# Altium footprint library Nebulizer_medical.PcbLib: 28 footprints (part 2 of 2)
Each footprint in its own frame and in the unit in brackets; x right, y up, seen from the top. Pads: shape width x height; smd on the part's side, far side on the other; paste and mask are expansions set on the pad; w line width, h text height; cw(c..) or ccw(c..) is an arc to the next point about the centre after c.
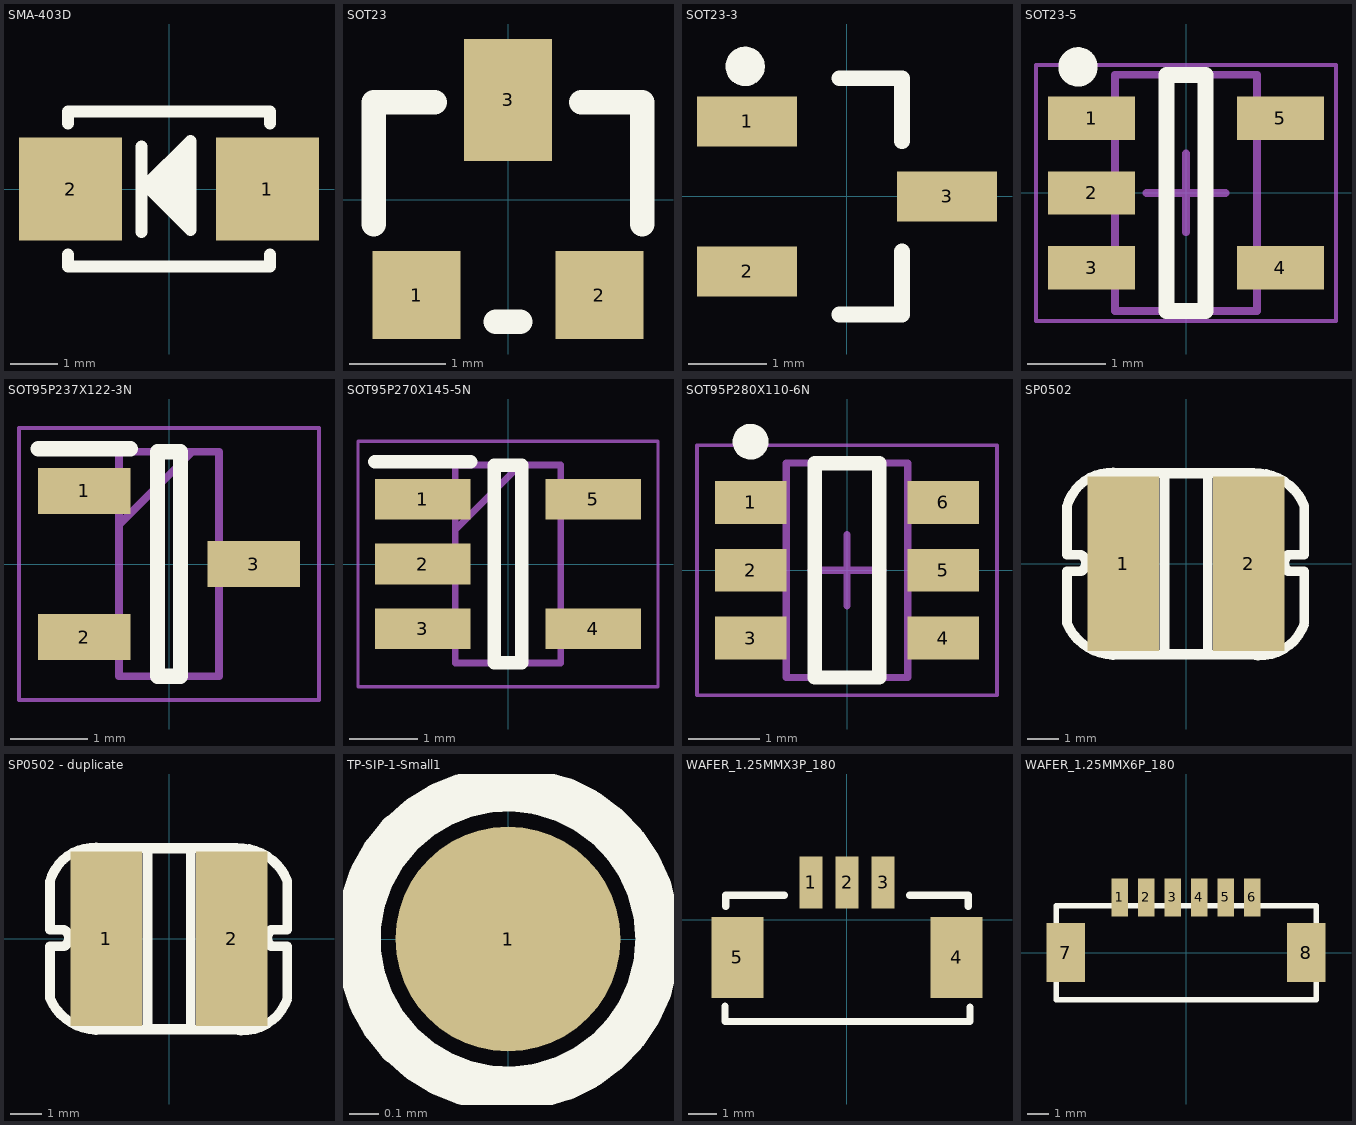
[diagram p1: the footprints below, top view; thin cyan lines are the x and y axes]

## SMA-403D [mm]
height 1.1
pads (2):
  rect 2.2x2.2 smd mask+0.127: 1(2.1,0) 2(-2.1,0)
Top Overlay:
  lines w0.254: -2.159,-1.397 -2.159,-1.651 2.158,-1.651 2.158,-1.398 ; -2.159,1.397 -2.159,1.651 2.158,1.651 2.158,1.398 ; -0.589,-0.92 -0.589,0.909 ; -0.469,0.097 0.456,1.021 0.456,-0.872 -0.495,0.079 -0.436,0.137 ; -0.352,0.095 -0.024,0.095 ; 0.077,-0.266 0.077,0.466 ; 0.077,-0.056 0.077,0.289 ; 0.228,0.516 0.228,-0.325 -0.188,0.091 0.279,0.558 ; 0.296,-0.569 0.296,0.676 ; 0.338,-0.695 0.338,0.642

## SOT23 [mil]
pads (3):
  rect 36x36 smd mask+5: 1(-37.5,-39) 2(37.5,-39)
  rect 36x50 smd mask+5: 3(0,41)
Top Overlay:
  lines w10: -55,-10 -55,40 -30,40 ; -5,-50 5,-50 ; 30,40 55,40 55,-10

## SOT23-3 [mil] "SOT23, 3-Leads, Body 2.92x2.78mm, Pitch 0.95mm, IPC Medium Density"
height 49.21
pads (3):
  rect 50x25 smd mask+5: 1(-50,37.5) 2(-50,-37.5) 3(50,0)
Top Overlay:
  circle w9.84: c-50.92,65 r4.92
  lines w7.87: -3.94,-59.06 27.56,-59.06 27.56,-27.56 ; -3.94,59.06 27.56,59.06 27.56,27.56

## SOT23-5 [mm] "SOT23, 5-Leads, Body 2.90x2.80mm, Pitch 0.95mm, IPC Medium Density"
height 1
pads (5):
  rect 1.1x0.55 smd mask+0.127: 1(-1.2,0.95) 2(-1.2,0) 3(-1.2,-0.95) 4(1.2,-0.95) 5(1.2,0.95)
Top Overlay:
  circle w0.25: c-1.372,1.6 r0.125
  lines w0.203: -0.25,-1.5 0.25,-1.5 0.25,1.5 -0.25,1.5 -0.25,-1.5
Mechanical 13:
  lines w0.1: -0.9,-1.5 -0.9,1.5 0.9,1.5 0.9,-1.5 -0.9,-1.5
Mechanical 15:
  lines w0.05: -1.905,-1.626 -1.905,1.626 1.905,1.626 1.905,-1.626 -1.905,-1.626
  lines w0.1: -0.5,0 0.5,0 ; 0,-0.5 0,0.5
3D body: height 1, standoff 0.12, extent -0.9,-1.5 0.9,1.5

## SOT95P237X122-3N [mm]
pads (3):
  rect 1.2x0.6 smd mask+0.127: 1(-1.1,0.95) 2(-1.1,-0.95) 3(1.1,0)
Top Overlay:
  lines w0.2: -1.7,1.5 -0.5,1.5 ; -0.15,-1.46 -0.15,1.46 0.15,1.46 0.15,-1.46 -0.15,-1.46
Mechanical 13:
  lines w0.1: -0.65,0.51 0.3,1.46 ; -0.65,-1.46 -0.65,1.46 0.65,1.46 0.65,-1.46 -0.65,-1.46
Mechanical 15:
  lines w0.05: -1.95,-1.77 -1.95,1.77 1.95,1.77 1.95,-1.77 -1.95,-1.77
3D body "FDN86246.stp": height 1.22, standoff 0, extent -1.185,-1.46 1.185,1.46

## SOT95P270X145-5N [mm]
pads (5):
  rect 1.4x0.6 smd mask+0.127: 1(-1.25,0.95) 2(-1.25,0) 3(-1.25,-0.95) 4(1.25,-0.95) 5(1.25,0.95)
Top Overlay:
  lines w0.2: -1.95,1.5 -0.55,1.5 ; -0.2,-1.45 0.2,-1.45 0.2,1.45 -0.2,1.45 -0.2,-1.45
Mechanical 13:
  lines w0.1: -0.775,0.5 0.175,1.45 ; -0.775,-1.45 0.775,-1.45 0.775,1.45 -0.775,1.45 -0.775,-1.45
Mechanical 15:
  lines w0.05: -2.2,-1.8 2.2,-1.8 2.2,1.8 -2.2,1.8 -2.2,-1.8
3D body "ME6211C33M5G-N.stp": height 1.45, standoff 0, extent -1.35,-1.45 1.35,1.45

## SOT95P280X110-6N [mm] "SOT23, 6-Leads, Body 2.90x2.80mm, Pitch 0.95mm, IPC Medium Density"
height 1.1
pads (6):
  rect 1x0.6 smd mask+0.127: 1(-1.35,0.95) 2(-1.35,0) 3(-1.35,-0.95) 4(1.35,-0.95) 5(1.35,0) 6(1.35,0.95)
Top Overlay:
  circle w0.25: c-1.35,1.8 r0.125
  lines w0.2: -0.45,-1.5 0.45,-1.5 0.45,1.5 -0.45,1.5 -0.45,-1.5
Mechanical 13:
  lines w0.1: -0.85,-1.5 -0.85,1.5 0.85,1.5 0.85,-1.5 -0.85,-1.5
Mechanical 15:
  lines w0.05: -2.1,-1.75 -2.1,1.75 2.1,1.75 2.1,-1.75 -2.1,-1.75
  lines w0.1: -0.5,0 0.5,0 ; 0,-0.5 0,0.5
3D body: height 1.1, standoff 0.05, extent -0.85,-1.5 0.85,1.5

## SP0502 [mm]
pads (2):
  rect 2.25x5.5 smd mask+0.127: 1(-1.975,0) 2(1.975,0)
Top Overlay:
  lines w0.305: -3.75,-1.883 -3.75,-0.241 -3.302,-0.241 ; -3.75,-1.883 ccw(c-2.228,-1.217) -2.094,-2.874 2.059,-2.874 ; -3.751,1.807 cw(c-2.34,1.408) -2.095,2.854 ; -3.75,1.809 -3.75,0.275 -3.302,0.275 ; -3.303,-0.241 ccw(c-3.441,0.017) -3.302,0.275 ; -2.094,2.854 2.127,2.854 ; 2.06,-2.874 ccw(c2.326,-1.422) 3.729,-1.883 3.729,-0.241 3.213,-0.241 cw(c3.443,0.017) 3.213,0.275 3.729,0.275 3.729,1.809 ; 2.126,2.854 cw(c2.198,1.213) 3.728,1.81 ; -0.675,-2.847 -0.675,2.84 0.68,2.84 0.68,-2.847 -0.675,-2.847
3D body: height 3.9, standoff 0, extent -2.902,-2.912 2.898,2.888

## SP0502 - duplicate [mm]
pads (2):
  rect 2.25x5.5 smd mask+0.127: 1(-1.975,0) 2(1.975,0)
Top Overlay:
  lines w0.305: -3.75,-1.883 -3.75,-0.241 -3.302,-0.241 ; -3.75,-1.883 ccw(c-2.228,-1.217) -2.094,-2.874 2.059,-2.874 ; -3.751,1.807 cw(c-2.34,1.408) -2.095,2.854 ; -3.75,1.809 -3.75,0.275 -3.302,0.275 ; -3.303,-0.241 ccw(c-3.441,0.017) -3.302,0.275 ; -2.094,2.854 2.127,2.854 ; 2.06,-2.874 ccw(c2.326,-1.422) 3.729,-1.883 3.729,-0.241 3.213,-0.241 cw(c3.443,0.017) 3.213,0.275 3.729,0.275 3.729,1.809 ; 2.126,2.854 cw(c2.198,1.213) 3.728,1.81 ; -0.675,-2.847 0.68,-2.847 0.68,2.84 -0.675,2.84 -0.675,-2.847
3D body "S214.STEP": height 2.82, standoff 0, extent -3.01,-3.079 3.01,2.921

## TP-SIP-1-Small1 [mil] "test point"
height 43.31
pads (1):
  round 30 smd mask+5: 1(0,0)
Top Overlay:
  circle w6: c0,0 r20

## WAFER_1.25MMX3P_180 [mm] "1.25T-3PWT"
height 5
pads (5):
  rect 0.8x1.8 smd mask+0.127: 1(-1.25,1.3) 2(0,1.3) 3(1.25,1.3)
  rect 1.8x2.8 smd mask+0.127: 4(3.8,-1.3) 5(-3.8,-1.3)
Top Overlay:
  lines w0.254: -4.232,-2.982 -4.232,-3.521 4.264,-3.521 4.264,-3.015 ; -4.201,0.478 -4.201,0.859 -2.169,0.859 ; 2.169,0.859 4.201,0.859 4.201,0.478
3D body "3_asm.stp": height 3.7, standoff 0, extent -4.4,-3.429 4.4,1.871

## WAFER_1.25MMX6P_180 [mm]
pads (8):
  rect 0.8x1.8 smd mask+0.127: 1(-3.125,2.6) 2(-1.875,2.6) 3(-0.625,2.6) 4(0.625,2.6) 5(1.875,2.6) 6(3.125,2.6)
  rect 1.8x2.8 smd mask+0.127: 7(-5.675,0) 8(5.675,0)
Top Overlay:
  lines w0.254: -6.126,-2.221 6.15,-2.221 6.15,2.206 -6.126,2.206 -6.126,-2.221
3D body "6_asm.stp": height 3.4, standoff 0, extent -6.325,-2.142 6.325,3.048